# Altium footprint library GCT_USB3131-30-0230-A_REVB.PcbLib: 1 footprints
Each footprint in its own frame and in the unit in brackets; x right, y up, seen from the top. Pads: shape width x height; smd on the part's side, far side on the other; paste and mask are expansions set on the pad; w line width, h text height; cw(c..) or ccw(c..) is an arc to the next point about the centre after c.
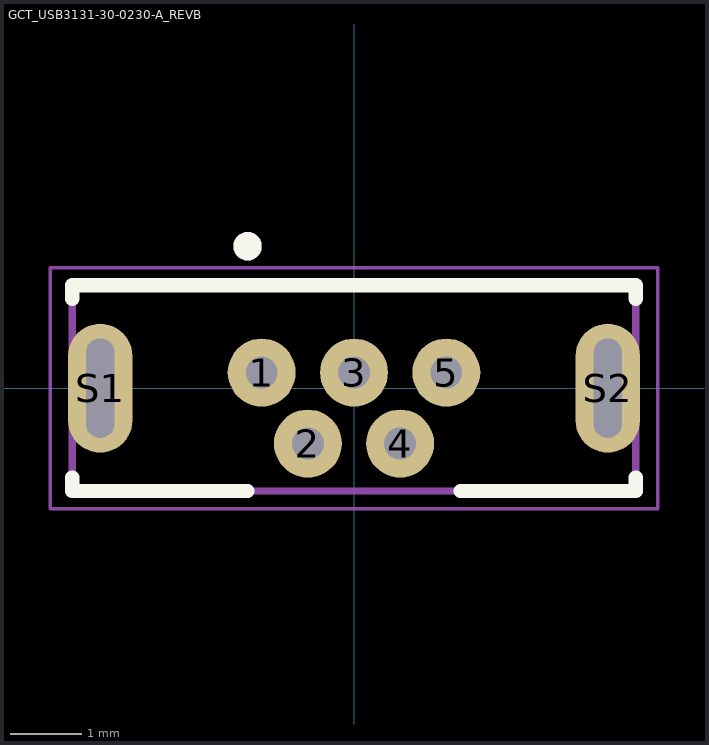
[diagram p0: the footprint, top view; thin cyan lines are the x and y axes]

## GCT_USB3131-30-0230-A_REVB [mm]
pads (7):
  round 0.958 hole 0.45: 1(-1.3,0.22) 2(-0.65,-0.78) 3(0,0.22) 4(0.65,-0.78) 5(1.3,0.22)
  oval 0.908x1.816 hole 0.4 slot 1.4 at 90 deg: S1(-3.575,0) S2(3.575,0)
Top Overlay:
  circle w0.2: c-1.5,2 r0.1
  lines w0.2: -3.97,-1.26 -3.97,-1.45 -1.5,-1.45 ; -3.97,1.26 -3.97,1.45 3.97,1.45 3.97,1.26 ; 1.5,-1.45 3.97,-1.45 3.97,-1.26
Mechanical 13:
  circle w0.2: c-1.5,2 r0.1
  lines w0.1: -3.97,-1.45 3.97,-1.45 3.97,1.45 -3.97,1.45 -3.97,-1.45
Mechanical 15:
  lines w0.05: -4.28,-1.7 -4.28,1.7 4.28,1.7 4.28,-1.7 -4.28,-1.7